# Altium schematic symbol library Regulator_Controller.SchLib: 153 symbols (part 1 of 2)
Pins are listed as number, name and electrical type; pins without a type are passive.

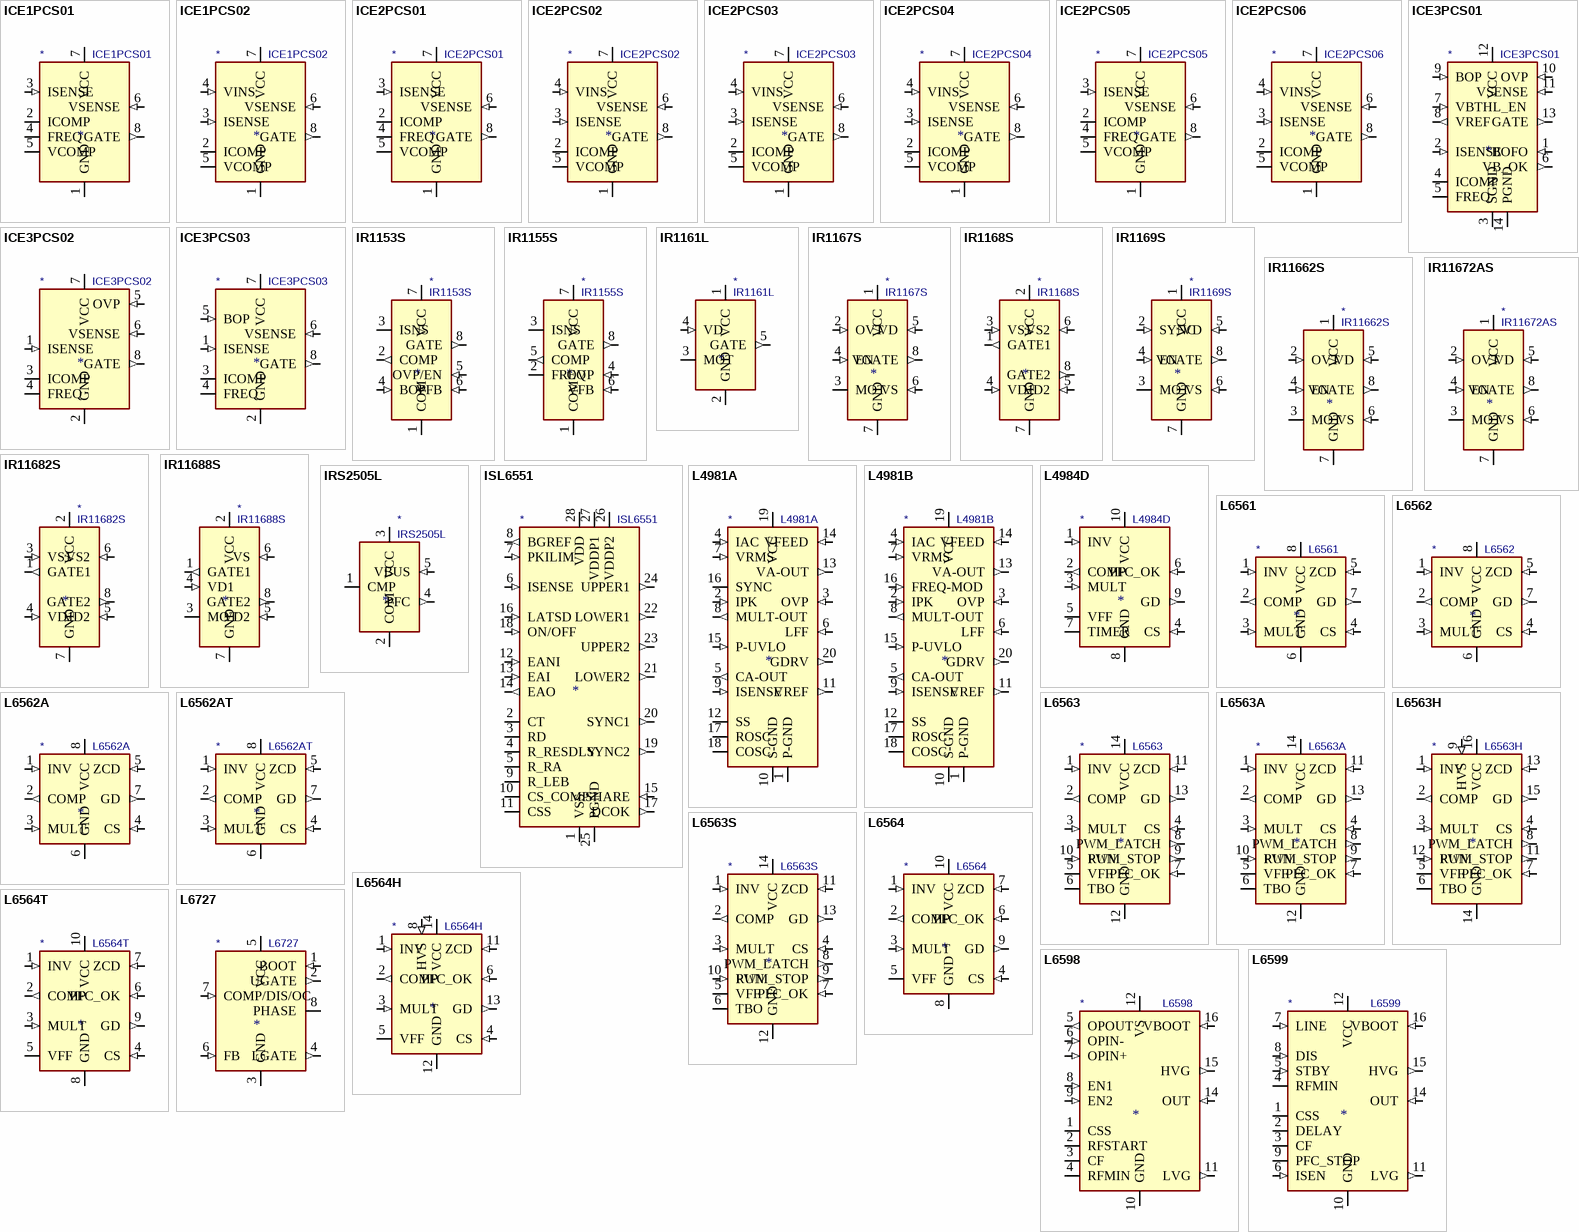
[diagram p0: symbols ICE1PCS01 to L6727]

## ICE1PCS01
designator *  value ICE1PCS01
ki_keywords: SMPS pfc controller; ki_description: Standalone PFC Controller in CCM, DIP-8/SOIC-8; ki_fp_filters: SOIC*3.9x4.9mm*P1.27mm* DIP*W7.62mm*; Supplier: https://www.infineon.com/dgdl/Infineon-ICE1PCS01-DS-v01_03-en.pdf?fileId=db3a304412b407950112b427c6f13cc7
pins: 1 GND (power), 2 ICOMP, 3 ISENSE (in), 4 FREQ, 5 VCOMP, 6 VSENSE (in), 7 VCC (power), 8 GATE (out)

## ICE1PCS02
designator *  value ICE1PCS02
ki_keywords: SMPS pfc controller; ki_description: Standalone PFC Controller in CCM With Input Brown-Out Protection, 65kHz, DIP-8/SOIC-8; ki_fp_filters: SOIC*3.9x4.9mm*P1.27mm* DIP*W7.62mm*; Supplier: https://www.infineon.com/dgdl/Infineon-ICE1PCS02-DS-v01_02-en.pdf?fileId=db3a304412b407950112b427c9283ccb
pins: 1 GND (power), 2 ICOMP, 3 ISENSE (in), 4 VINS (in), 5 VCOMP, 6 VSENSE (in), 7 VCC (power), 8 GATE (out)

## ICE2PCS01
designator *  value ICE2PCS01
ki_keywords: SMPS pfc controller; ki_description: Standalone PFC Controller in CCM, DIP-8/SOIC-8; ki_fp_filters: SOIC*3.9x4.9mm*P1.27mm* DIP*W7.62mm*; Supplier: https://www.infineon.com/dgdl/Infineon-ICE2PCS01-DS-v02_03-en.pdf?fileId=db3a304412b407950112b427caa43ccf
pins: 1 GND (power), 2 ICOMP, 3 ISENSE (in), 4 FREQ, 5 VCOMP, 6 VSENSE (in), 7 VCC (power), 8 GATE (out)

## ICE2PCS02
designator *  value ICE2PCS02
ki_keywords: SMPS pfc controller; ki_description: Standalone PFC Controller in CCM With Input Brown-Out Protection, 65kHz, DIP-8/SOIC-8; ki_fp_filters: SOIC*3.9x4.9mm*P1.27mm* DIP*W7.62mm*; Supplier: https://www.infineon.com/dgdl/Infineon-ICE2PCS02-DS-v02_04-en.pdf?fileId=db3a304412b407950112b427cc3c3cdc
pins: 1 GND (power), 2 ICOMP, 3 ISENSE (in), 4 VINS (in), 5 VCOMP, 6 VSENSE (in), 7 VCC (power), 8 GATE (out)

## ICE2PCS03
designator *  value ICE2PCS03
ki_keywords: SMPS pfc controller; ki_description: Standalone PFC Controller in CCM With Input Brown-Out Protection, 100kHz, DIP-8/SOIC-8; ki_fp_filters: SOIC*3.9x4.9mm*P1.27mm* DIP*W7.62mm*; Supplier: https://www.infineon.com/dgdl/Infineon-ICE2PCS03-DS-v02_01-en.pdf?fileId=db3a30431936bc4b01193b45457e52a1
pins: 1 GND (power), 2 ICOMP, 3 ISENSE (in), 4 VINS (in), 5 VCOMP, 6 VSENSE (in), 7 VCC (power), 8 GATE (out)

## ICE2PCS04
designator *  value ICE2PCS04
ki_keywords: SMPS pfc controller; ki_description: Standalone PFC Controller in CCM With Input Brown-Out Protection, 133kHz, DIP-8/SOIC-8; ki_fp_filters: SOIC*3.9x4.9mm*P1.27mm* DIP*W7.62mm*; Supplier: https://www.infineon.com/dgdl/Infineon-ICE2PCS04-DS-v02_01-en.pdf?fileId=db3a30431936bc4b01193b4e467952a9
pins: 1 GND (power), 2 ICOMP, 3 ISENSE (in), 4 VINS (in), 5 VCOMP, 6 VSENSE (in), 7 VCC (power), 8 GATE (out)

## ICE2PCS05
designator *  value ICE2PCS05
ki_keywords: SMPS pfc controller; ki_description: Standalone PFC Controller in CCM, DIP-8/SOIC-8; ki_fp_filters: SOIC*3.9x4.9mm*P1.27mm* DIP*W7.62mm*; Supplier: https://www.infineon.com/dgdl/Infineon-ICE2PCS05-DS-v01_02-en.pdf?fileId=db3a30431c69a49d011cdfb46a834373
pins: 1 GND (power), 2 ICOMP, 3 ISENSE (in), 4 FREQ, 5 VCOMP, 6 VSENSE (in), 7 VCC (power), 8 GATE (out)

## ICE2PCS06
designator *  value ICE2PCS06
ki_keywords: SMPS pfc controller; ki_description: Standalone PFC Controller in CCM With Input Brown-Out Protection, 65kHz, DIP-8/SOIC-8; ki_fp_filters: SOIC*3.9x4.9mm*P1.27mm* DIP*W7.62mm*; Supplier: https://www.infineon.com/dgdl/Infineon-ICE2PCS06-DS-v01_01-en.pdf?fileId=db3a3043327f13e3013285ff4ecb2e77
pins: 1 GND (power), 2 ICOMP, 3 ISENSE (in), 4 VINS (in), 5 VCOMP, 6 VSENSE (in), 7 VCC (power), 8 GATE (out)

## ICE3PCS01
designator *  value ICE3PCS01
ki_keywords: SMPS pfc controller; ki_description: Standalone PFC Controller in CCM, SOIC-14; ki_fp_filters: SOIC*3.9x8.7mm*P1.27mm*; Footprint: Package_SO:SOIC-14_3.9x8.7mm_P1.27mm; Supplier: https://www.infineon.com/dgdl/Infineon-ICE3PCS01-DS-v03_00-EN.pdf?fileId=db3a304329a0f6ee0129a67ae8c02b46
footprint SOIC-14_3.9x8.7mm_P1.27mm
pins: 1 BOFO (in), 2 ISENSE (in), 3 SGND (power), 4 ICOMP, 5 FREQ, 6 VB_OK (out), 7 VBTHL_EN (in), 8 VREF (out), 9 BOP (in), 10 OVP (in), 11 VSENSE (in), 12 VCC (power), 13 GATE (out), 14 PGND (power)

## ICE3PCS02
designator *  value ICE3PCS02
ki_keywords: SMPS pfc controller; ki_description: Standalone PFC Controller in CCM, SOIC-8; ki_fp_filters: SOIC*3.9x4.9mm*P1.27mm*; Footprint: Package_SO:SOIC-8_3.9x4.9mm_P1.27mm; Supplier: https://www.infineon.com/dgdl/Infineon-ICE3PCS02G-DS-v03_00-EN.pdf?fileId=db3a304329a0f6ee0129a67fab472b4b
footprint SOIC-8_3.9x4.9mm_P1.27mm
pins: 1 ISENSE (in), 2 GND (power), 3 ICOMP, 4 FREQ, 5 OVP (in), 6 VSENSE (in), 7 VCC (power), 8 GATE (out)

## ICE3PCS03
designator *  value ICE3PCS03
ki_keywords: SMPS pfc controller; ki_description: Standalone PFC Controller in CCM, SOIC-8; ki_fp_filters: SOIC*3.9x4.9mm*P1.27mm*; Footprint: Package_SO:SOIC-8_3.9x4.9mm_P1.27mm; Supplier: https://www.infineon.com/dgdl/Infineon-ICE3PCS03G-DS-v03_00-EN.pdf?fileId=db3a304329a0f6ee0129a683c9c92b50
footprint SOIC-8_3.9x4.9mm_P1.27mm
pins: 1 ISENSE (in), 2 GND (power), 3 ICOMP, 4 FREQ, 5 BOP (in), 6 VSENSE (in), 7 VCC (power), 8 GATE (out)

## IR1153S
designator *  value IR1153S
ki_keywords: pfc controller ccm; ki_description: Fixed 22.2kHz Frequency, uPFC One Cycle Control IC With Brown-Out Protection, Continuous Conduction Mode, SOIC-8; ki_fp_filters: SOIC*3.9x4.9mm*P1.27mm*; Footprint: Package_SO:SOIC-8_3.9x4.9mm_P1.27mm; Supplier: https://www.infineon.com/dgdl/ir1153.pdf?fileId=5546d462533600a4015355c42a5b1649
footprint SOIC-8_3.9x4.9mm_P1.27mm
pins: 1 COM (power), 2 COMP (out), 3 ISNS, 4 BOP (in), 5 OVP/EN (in), 6 VFB (in), 7 VCC (power), 8 GATE (out)

## IR1155S
designator *  value IR1155S
ki_keywords: pfc controller ccm; ki_description: Programmable Frequency, One Cycle Control PFC IC, Continuous Conduction Mode, SOIC-8; ki_fp_filters: SOIC*3.9x4.9mm*P1.27mm*; Footprint: Package_SO:SOIC-8_3.9x4.9mm_P1.27mm; Supplier: https://www.infineon.com/dgdl/ir1155spbf.pdf?fileId=5546d462533600a4015355c431f9164b
footprint SOIC-8_3.9x4.9mm_P1.27mm
pins: 1 COM (power), 2 FREQ, 3 ISNS, 4 OVP (in), 5 COMP (out), 6 VFB (in), 7 VCC (power), 8 GATE (out)

## IR1161L
designator *  value IR1161L
ki_keywords: synchronous rectifier controller; ki_description: SmartRectifier Control IC, 500kHz, 200V, 1.0/2.5A, SOT-23-5; ki_fp_filters: SOT?23*; Footprint: Package_TO_SOT_SMD:SOT-23-5; Supplier: https://www.infineon.com/dgdl/ir1161lpbf.pdf?fileId=5546d462533600a4015355c439a5164d
footprint SOT-23-5
pins: 1 VCC (power), 2 GND (power), 3 MOT, 4 VD (in), 5 GATE (out)

## IR1167S
designator *  value IR1167S
ki_keywords: synchronous rectifier controller; ki_description: SmartRectifier Control IC, 500kHz, 200V, 2.0/7.0A, SOIC-8; ki_fp_filters: SOIC*3.9x4.9mm*P1.27mm*; Footprint: Package_SO:SOIC-8_3.9x4.9mm_P1.27mm; Supplier: https://www.infineon.com/dgdl/ir1167aspbf.pdf?fileId=5546d462533600a4015355c45d9c1655
footprint SOIC-8_3.9x4.9mm_P1.27mm
pins: 1 VCC (power), 2 OVT (in), 3 MOT, 4 EN (in), 5 VD (in), 6 VS (in), 7 GND (power), 8 VGATE (out)

## IR1168S
designator *  value IR1168S
ki_keywords: dual synchronous rectifier controller; ki_description: Dual Smart Rectifier Driver IC, 500kHz, 200V, 1.0/4.0A, SOIC-8; ki_fp_filters: SOIC*3.9x4.9mm*P1.27mm*; Footprint: Package_SO:SOIC-8_3.9x4.9mm_P1.27mm; Supplier: https://www.infineon.com/dgdl/ir1168.pdf?fileId=5546d462533600a4015355c467fa1658
footprint SOIC-8_3.9x4.9mm_P1.27mm
pins: 1 GATE1 (out), 2 VCC (power), 3 VS1 (in), 4 VD1 (in), 5 VD2 (in), 6 VS2 (in), 7 GND (power), 8 GATE2 (out)

## IR1169S
designator *  value IR1169S
ki_keywords: synchronous rectifier controller; ki_description: Advanced SmartRectifier Control IC, 500kHz, 200V, 1.0/4.0A, SOIC-8; ki_fp_filters: SOIC*3.9x4.9mm*P1.27mm*; Footprint: Package_SO:SOIC-8_3.9x4.9mm_P1.27mm; Supplier: https://www.infineon.com/dgdl/ir1169.pdf?fileId=5546d462533600a4015355c485c4165e
footprint SOIC-8_3.9x4.9mm_P1.27mm
pins: 1 VCC (power), 2 SYNC (in), 3 MOT, 4 EN (in), 5 VD (in), 6 VS (in), 7 GND (power), 8 VGATE (out)

## IR11662S
designator *  value IR11662S
ki_keywords: synchronous rectifier controller; ki_description: Advanced SmartRectifier Control IC, 500kHz, 200V, 1.0/4.0A, SOIC-8; ki_fp_filters: SOIC*3.9x4.9mm*P1.27mm*; Footprint: Package_SO:SOIC-8_3.9x4.9mm_P1.27mm; Supplier: https://www.infineon.com/dgdl/ir11662spbf.pdf?fileId=5546d462533600a4015355c44195164f
footprint SOIC-8_3.9x4.9mm_P1.27mm
pins: 1 VCC (power), 2 OVT (in), 3 MOT, 4 EN (in), 5 VD (in), 6 VS (in), 7 GND (power), 8 VGATE (out)

## IR11672AS
designator *  value IR11672AS
ki_keywords: synchronous rectifier controller; ki_description: Advanced SmartRectifier Control IC, 500kHz, 200V, 2.0/7.0A, SOIC-8; ki_fp_filters: SOIC*3.9x4.9mm*P1.27mm*; Footprint: Package_SO:SOIC-8_3.9x4.9mm_P1.27mm; Supplier: https://www.infineon.com/dgdl/ir11672aspbf.pdf?fileId=5546d462533600a4015355c455561653
footprint SOIC-8_3.9x4.9mm_P1.27mm
pins: 1 VCC (power), 2 OVT (in), 3 MOT, 4 EN (in), 5 VD (in), 6 VS (in), 7 GND (power), 8 VGATE (out)

## IR11682S
designator *  value IR11682S
ki_keywords: dual synchronous rectifier controller; ki_description: Dual SmartRectifier Driver IC, 400kHz, 200V, 1.0/4.0A, SOIC-8; ki_fp_filters: SOIC*3.9x4.9mm*P1.27mm*; Footprint: Package_SO:SOIC-8_3.9x4.9mm_P1.27mm; Supplier: https://www.infineon.com/dgdl/ir11682spbf.pdf?fileId=5546d462533600a4015355c47188165a
footprint SOIC-8_3.9x4.9mm_P1.27mm
pins: 1 GATE1 (out), 2 VCC (power), 3 VS1 (in), 4 VD1 (in), 5 VD2 (in), 6 VS2 (in), 7 GND (power), 8 GATE2 (out)

## IR11688S
designator *  value IR11688S
ki_keywords: dual synchronous rectifier controller; ki_description: Dual Synchronous Rectification Control IC, 400kHz, 200V, 1.0/4.0A, SOIC-8; ki_fp_filters: SOIC*3.9x4.9mm*P1.27mm*; Footprint: Package_SO:SOIC-8_3.9x4.9mm_P1.27mm; Supplier: https://www.infineon.com/dgdl/ir11688spbf.pdf?fileId=5546d462533600a4015355c47c70165c
footprint SOIC-8_3.9x4.9mm_P1.27mm
pins: 1 GATE1 (out), 2 VCC (power), 3 MOT, 4 VD1 (in), 5 VD2 (in), 6 VS (in), 7 GND (power), 8 GATE2 (out)

## IRS2505L
designator *  value IRS2505L
ki_keywords: pfc controller crcm dcm; ki_description: Boost PFC and SMPS Control IC, Critical Conduction Mode, SOT-23-5; ki_fp_filters: SOT?23*; Footprint: Package_TO_SOT_SMD:SOT-23-5; Supplier: https://www.infineon.com/dgdl/irs2505lpbf.pdf?fileId=5546d462533600a40153567ad42c2819
footprint SOT-23-5
pins: 1 CMP, 2 COM (power), 3 VCC (power), 4 PFC (out), 5 VBUS (in)

## ISL6551
designator *  value ISL6551
ki_keywords: SMPS controller; ki_description: ZVS Full Bridge PWM Controller, SOIC-28; ki_fp_filters: SOIC*7.5x17.9mm*P1.27mm*; Footprint: Package_SO:SOIC-28W_7.5x17.9mm_P1.27mm; Supplier: https://www.intersil.com/content/dam/Intersil/documents/isl6/isl6551.pdf
footprint SOIC-28W_7.5x17.9mm_P1.27mm
pins: 1 VSS (power), 2 CT, 3 RD, 4 R_RESDLY, 5 R_RA, 6 ISENSE (in), 7 PKILIM (in), 8 BGREF (out), 9 R_LEB, 10 CS_COMP, 11 CSS, 12 EANI (in), 13 EAI (in), 14 EAO (out), 15 SHARE (in), 16 LATSD (in), 17 DCOK (out), 18 ON/OFF (in), 19 SYNC2 (out), 20 SYNC1 (out), 21 LOWER2 (out), 22 LOWER1 (out), 23 UPPER2 (out), 24 UPPER1 (out), 25 PGND (power), 26 VDDP2 (power), 27 VDDP1 (power), 28 VDD (power)

## L4981A
designator *  value L4981A
ki_keywords: SMPS pfc controller; ki_description: Power Factor Corrector, Fixed Frequency Average Current Mode, DIP-20/SOIC-20; ki_fp_filters: SOIC*7.5x12.8mm*P1.27mm* DIP*W7.62mm*; Supplier: http://www.st.com/resource/en/datasheet/l4981.pdf
pins: 1 P-GND (power), 2 IPK (in), 3 OVP (in), 4 IAC (in), 5 CA-OUT (out), 6 LFF (in), 7 VRMS (in), 8 MULT-OUT (out), 9 ISENSE (in), 10 S-GND (power), 11 VREF (out), 12 SS, 13 VA-OUT (out), 14 VFEED (in), 15 P-UVLO (in), 16 SYNC (io), 17 ROSC, 18 COSC, 19 VCC (power), 20 GDRV (out)

## L4981B
designator *  value L4981B
ki_keywords: SMPS pfc controller; ki_description: Power Factor Corrector, Line Modulated Frequency Average Current Mode, DIP-20/SOIC-20; ki_fp_filters: SOIC*7.5x12.8mm*P1.27mm* DIP*W7.62mm*; Supplier: http://www.st.com/resource/en/datasheet/l4981.pdf
pins: 1 P-GND (power), 2 IPK (in), 3 OVP (in), 4 IAC (in), 5 CA-OUT (out), 6 LFF (in), 7 VRMS (in), 8 MULT-OUT (out), 9 ISENSE (in), 10 S-GND (power), 11 VREF (out), 12 SS, 13 VA-OUT (out), 14 VFEED (in), 15 P-UVLO (in), 16 FREQ-MOD (in), 17 ROSC, 18 COSC, 19 VCC (power), 20 GDRV (out)

## L4984D
designator *  value L4984D
ki_keywords: SMPS pfc controller; ki_description: CCM PFC Controller, SSOP-10; ki_fp_filters: SSOP*3.9x4.9mm*P1.00mm*; Footprint: Package_SO:SSOP-10_3.9x4.9mm_P1.00mm; Supplier: http://www.st.com/resource/en/datasheet/l4984d.pdf
footprint SSOP-10_3.9x4.9mm_P1.00mm
pins: 1 INV (in), 2 COMP (out), 3 MULT (in), 4 CS (in), 5 VFF, 6 PFC_OK (in), 7 TIMER, 8 GND (power), 9 GD (out), 10 VCC (power)

## L6561
designator *  value L6561
ki_keywords: SMPS pfc controller; ki_description: Transition Mode Power Factor Corrector, DIP-8/SOIC-8; ki_fp_filters: SOIC*3.9x4.9mm*P1.27mm* DIP*W7.62mm*; Supplier: http://www.st.com/resource/en/datasheet/l6561.pdf
pins: 1 INV (in), 2 COMP (out), 3 MULT (in), 4 CS (in), 5 ZCD (in), 6 GND (power), 7 GD (out), 8 VCC (power)

## L6562
designator *  value L6562
ki_keywords: SMPS pfc controller; ki_description: Transition-Mode PFC Controller, DIP-8/SOIC-8; ki_fp_filters: SOIC*3.9x4.9mm*P1.27mm* DIP*W7.62mm*; Supplier: http://www.st.com/resource/en/datasheet/l6562.pdf
pins: 1 INV (in), 2 COMP (out), 3 MULT (in), 4 CS (in), 5 ZCD (in), 6 GND (power), 7 GD (out), 8 VCC (power)

## L6562A
designator *  value L6562A
ki_keywords: SMPS pfc controller; ki_description: Transition-Mode PFC Controller, DIP-8/SOIC-8; ki_fp_filters: SOIC*3.9x4.9mm*P1.27mm* DIP*W7.62mm*; Supplier: http://www.st.com/resource/en/datasheet/l6562a.pdf
pins: 1 INV (in), 2 COMP (out), 3 MULT (in), 4 CS (in), 5 ZCD (in), 6 GND (power), 7 GD (out), 8 VCC (power)

## L6562AT
designator *  value L6562AT
ki_keywords: SMPS pfc controller; ki_description: Transition-Mode PFC Controller, DIP-8/SOIC-8; ki_fp_filters: SOIC*3.9x4.9mm*P1.27mm* DIP*W7.62mm*; Supplier: http://www.st.com/resource/en/datasheet/l6562at.pdf
pins: 1 INV (in), 2 COMP (out), 3 MULT (in), 4 CS (in), 5 ZCD (in), 6 GND (power), 7 GD (out), 8 VCC (power)

## L6563
designator *  value L6563
ki_keywords: SMPS pfc controller; ki_description: Advanced Transition-Mode PFC Controller, SOIC-14; ki_fp_filters: SOIC*3.9x8.7mm*P1.27mm*; Footprint: Package_SO:SOIC-14_3.9x8.7mm_P1.27mm; Supplier: http://www.st.com/resource/en/datasheet/l6563.pdf
footprint SOIC-14_3.9x8.7mm_P1.27mm
pins: 1 INV (in), 2 COMP (out), 3 MULT (in), 4 CS (in), 5 VFF, 6 TBO, 7 PFC_OK (in), 8 PWM_LATCH (out), 9 PWM_STOP (out), 10 RUN (in), 11 ZCD (in), 12 GND (power), 13 GD (out), 14 VCC (power)

## L6563A
designator *  value L6563A
ki_keywords: SMPS pfc controller; ki_description: Advanced Transition-Mode PFC Controller, SOIC-14; ki_fp_filters: SOIC*3.9x8.7mm*P1.27mm*; Footprint: Package_SO:SOIC-14_3.9x8.7mm_P1.27mm; Supplier: http://www.st.com/resource/en/datasheet/l6563.pdf
footprint SOIC-14_3.9x8.7mm_P1.27mm
pins: 1 INV (in), 2 COMP (out), 3 MULT (in), 4 CS (in), 5 VFF, 6 TBO, 7 PFC_OK (in), 8 PWM_LATCH (out), 9 PWM_STOP (out), 10 RUN (in), 11 ZCD (in), 12 GND (power), 13 GD (out), 14 VCC (power)

## L6563H
designator *  value L6563H
ki_keywords: SMPS pfc controller; ki_description: High Voltage Start-Up Transition-Mode PFC, SOIC-16; ki_fp_filters: SOIC*3.9x9.9mm*P1.27mm*; Footprint: Package_SO:SOIC-16_3.9x9.9mm_P1.27mm; Supplier: http://www.st.com/resource/en/datasheet/l6563h.pdf
footprint SOIC-16_3.9x9.9mm_P1.27mm
pins: 1 INV (in), 2 COMP (out), 3 MULT (in), 4 CS (in), 5 VFF, 6 TBO, 7 PFC_OK (in), 8 PWM_LATCH (out), 9 HVS (in), 10 NC (in) hidden, 11 PWM_STOP (out), 12 RUN (in), 13 ZCD (in), 14 GND (power), 15 GD (out), 16 VCC (power)

## L6563S
designator *  value L6563S
ki_keywords: SMPS pfc controller; ki_description: Enhanced Transition-Mode PFC Controller, SOIC-14; ki_fp_filters: SOIC*3.9x8.7mm*P1.27mm*; Footprint: Package_SO:SOIC-14_3.9x8.7mm_P1.27mm; Supplier: http://www.st.com/resource/en/datasheet/l6563s.pdf
footprint SOIC-14_3.9x8.7mm_P1.27mm
pins: 1 INV (in), 2 COMP (out), 3 MULT (in), 4 CS (in), 5 VFF, 6 TBO, 7 PFC_OK (in), 8 PWM_LATCH (out), 9 PWM_STOP (out), 10 RUN (in), 11 ZCD (in), 12 GND (power), 13 GD (out), 14 VCC (power)

## L6564
designator *  value L6564
ki_keywords: SMPS pfc controller; ki_description: 10-Pin Transition-Mode PFC Controller, SSOP-10; ki_fp_filters: SSOP*3.9x4.9mm*P1.00mm*; Footprint: Package_SO:SSOP-10_3.9x4.9mm_P1.00mm; Supplier: http://www.st.com/resource/en/datasheet/l6564.pdf
footprint SSOP-10_3.9x4.9mm_P1.00mm
pins: 1 INV (in), 2 COMP (out), 3 MULT (in), 4 CS (in), 5 VFF, 6 PFC_OK (in), 7 ZCD (in), 8 GND (power), 9 GD (out), 10 VCC (power)

## L6564H
designator *  value L6564H
ki_keywords: SMPS pfc controller; ki_description: High Voltage Start-Up Transition-Mode PFC, SOIC-14; ki_fp_filters: SOIC*3.9x8.7mm*P1.27mm*; Footprint: Package_SO:SOIC-14_3.9x8.7mm_P1.27mm; Supplier: http://www.st.com/resource/en/datasheet/l6564h.pdf
footprint SOIC-14_3.9x8.7mm_P1.27mm
pins: 1 INV (in), 2 COMP (out), 3 MULT (in), 4 CS (in), 5 VFF, 6 PFC_OK (in), 7 NC (in) hidden, 8 HVS (in), 9 NC (in) hidden, 10 NC (in) hidden, 11 ZCD (in), 12 GND (power), 13 GD (out), 14 VCC (power)

## L6564T
designator *  value L6564T
ki_keywords: SMPS pfc controller; ki_description: 10-Pin Transition-Mode PFC Controller for Outdoor Applications, SSOP-10; ki_fp_filters: SSOP*3.9x4.9mm*P1.00mm*; Footprint: Package_SO:SSOP-10_3.9x4.9mm_P1.00mm; Supplier: http://www.st.com/resource/en/datasheet/l6564t.pdf
footprint SSOP-10_3.9x4.9mm_P1.00mm
pins: 1 INV (in), 2 COMP (out), 3 MULT (in), 4 CS (in), 5 VFF, 6 PFC_OK (in), 7 ZCD (in), 8 GND (power), 9 GD (out), 10 VCC (power)

## L6598
designator *  value L6598
ki_keywords: SMPS controller; ki_description: High Voltage Resonant Controller, DIP-16/SOIC-16; ki_fp_filters: SOIC*3.9x9.9mm*P1.27mm* DIP*W7.62mm*; Supplier: www.st.com/resource/en/datasheet/l6598.pdf
pins: 1 CSS, 2 RFSTART, 3 CF, 4 RFMIN, 5 OPOUT (out), 6 OPIN- (in), 7 OPIN+ (in), 8 EN1 (in), 9 EN2 (in), 10 GND (power), 11 LVG (out), 12 VS (power), 13 NC (in) hidden, 14 OUT (in), 15 HVG (out), 16 VBOOT (in)

## L6599
designator *  value L6599
ki_keywords: SMPS controller; ki_description: High Voltage Resonant Controller, DIP-16/SOIC-16; ki_fp_filters: SOIC*3.9x9.9mm*P1.27mm* DIP*W7.62mm*; Supplier: www.st.com/resource/en/datasheet/l6599.pdf
pins: 1 CSS, 2 DELAY, 3 CF, 4 RFMIN, 5 STBY (in), 6 ISEN (in), 7 LINE (in), 8 DIS (in), 9 PFC_STOP (oc), 10 GND (power), 11 LVG (out), 12 VCC (power), 13 NC (in) hidden, 14 OUT (in), 15 HVG (out), 16 VBOOT (in)

## L6727
designator *  value L6727
ki_keywords: SMPS controller; ki_description: Single Phase PWM Controller, SOIC-8; ki_fp_filters: SOIC*3.9x4.9mm*P1.27mm*; Footprint: Package_SO:SOIC-8_3.9x4.9mm_P1.27mm; Supplier: http://www.st.com/resource/en/datasheet/l6727.pdf
footprint SOIC-8_3.9x4.9mm_P1.27mm
pins: 1 BOOT (in), 2 UGATE (out), 3 GND (power), 4 LGATE (out), 5 VCC (power), 6 FB (in), 7 COMP/DIS/OC (in), 8 PHASE

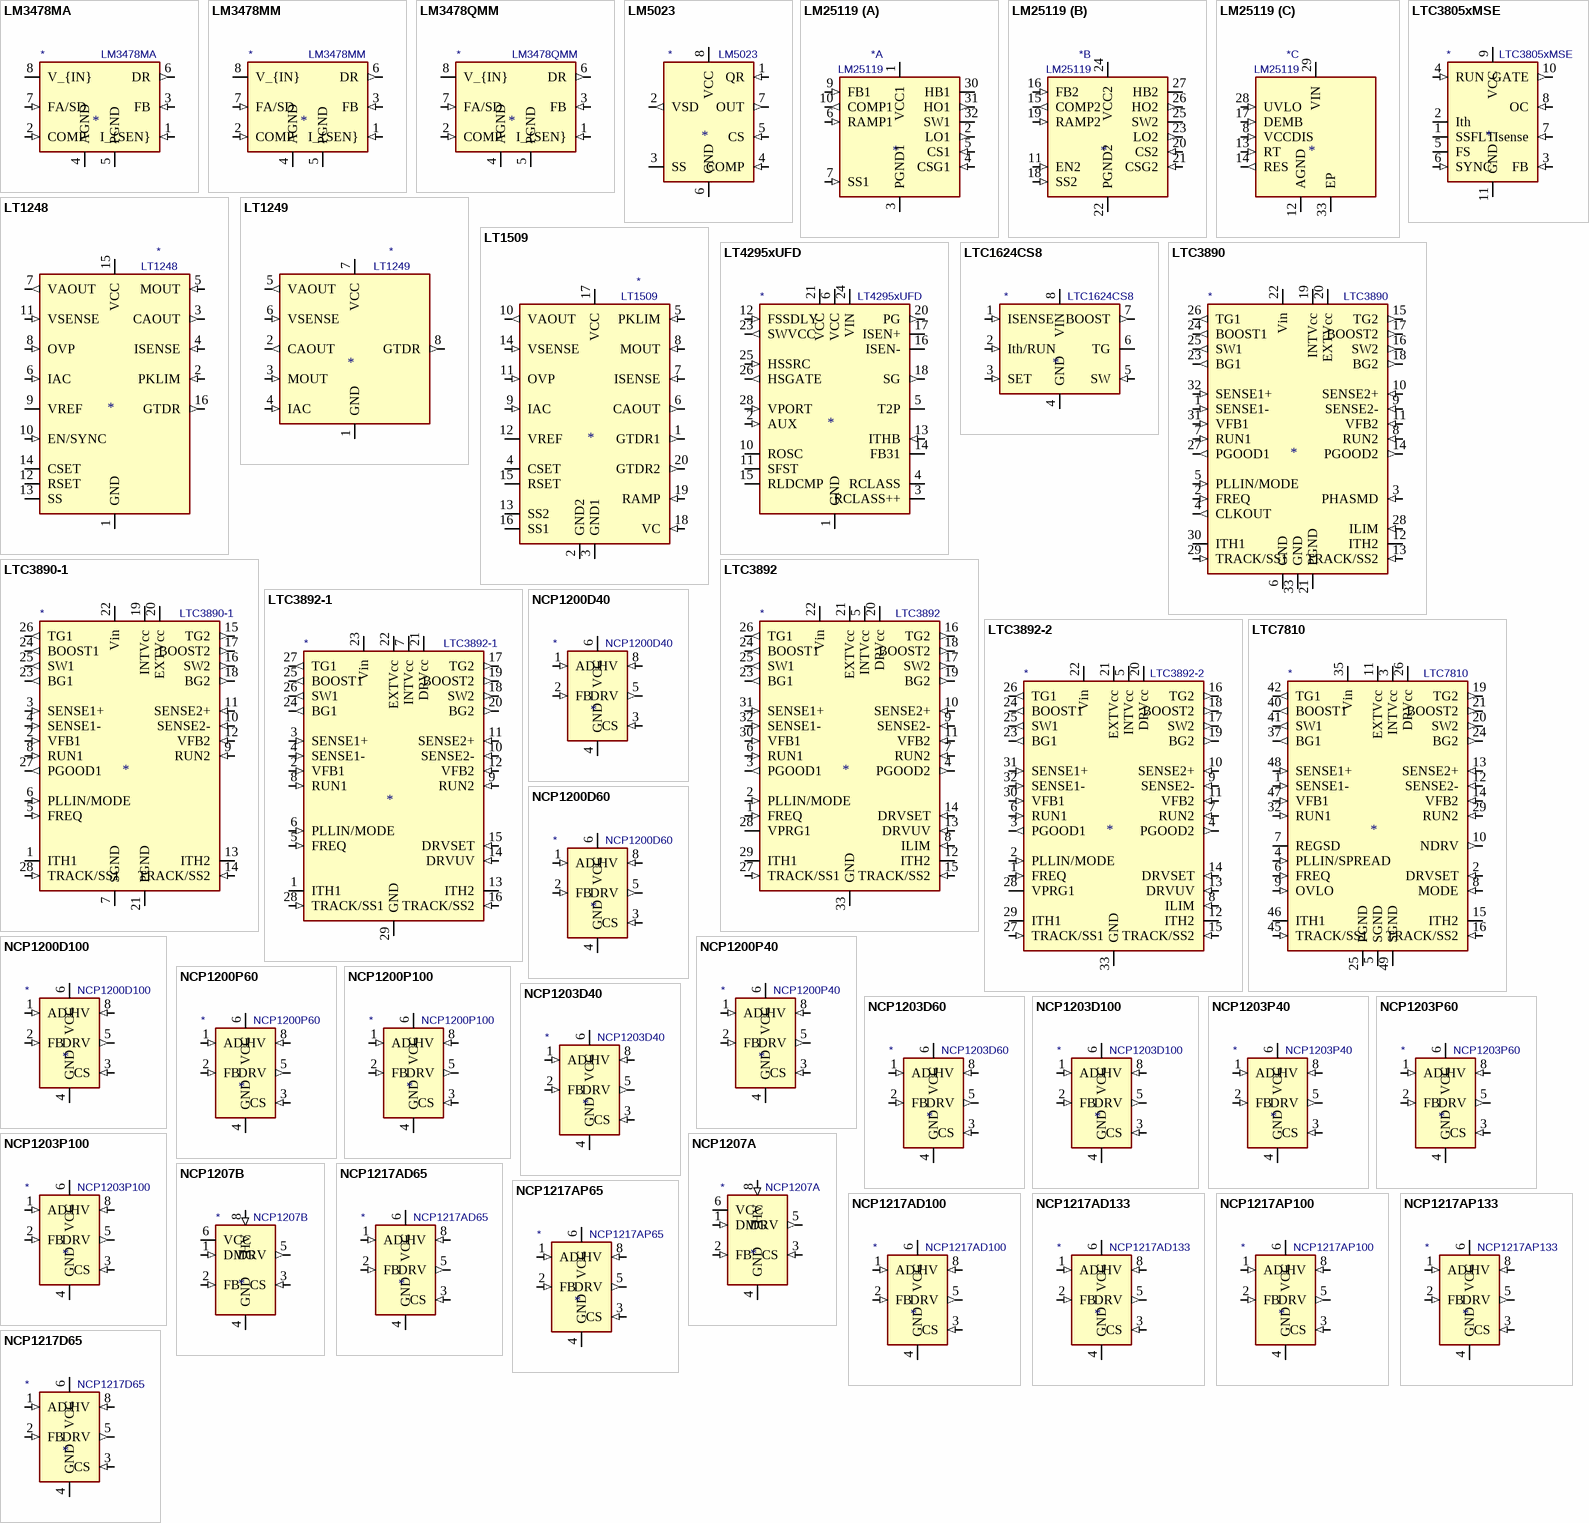
[diagram p1: symbols LM3478MA to NCP1217D65]

## LM3478MA
designator *  value LM3478MA
ki_keywords: Boost flyback SEPIC DC-DC controller; ki_description: 2.97~40V Wide Input Range Boost/SEPIC/Flyback DC-DC Controller, SOIC-8; ki_fp_filters: SOIC-8*3.9x4.9mm_P1.27mm*; Footprint: Package_SO:SOIC-8_3.9x4.9mm_P1.27mm; Supplier: https://www.ti.com/lit/gpn/lm3478
footprint SOIC-8_3.9x4.9mm_P1.27mm
pins: 1 I_{SEN} (in), 2 COMP (in), 3 FB (in), 4 AGND (power), 5 PGND (power), 6 DR (out), 7 FA/SD (in), 8 V_{IN} (power)

## LM3478MM
designator *  value LM3478MM
ki_keywords: Boost flyback SEPIC DC-DC controller; ki_description: 2.97~40V Wide Input Range Boost/SEPIC/Flyback DC-DC Controller, VSSOP-8; ki_fp_filters: VSSOP-8_3.0x3.0mm_P0.65mm*; Footprint: Package_SO:VSSOP-8_3.0x3.0mm_P0.65mm; Supplier: https://www.ti.com/lit/gpn/lm3478
footprint VSSOP-8_3.0x3.0mm_P0.65mm
pins: 1 I_{SEN} (in), 2 COMP (in), 3 FB (in), 4 AGND (power), 5 PGND (power), 6 DR (out), 7 FA/SD (in), 8 V_{IN} (power)

## LM3478QMM
designator *  value LM3478QMM
ki_keywords: Boost flyback SEPIC DC-DC controller Automotive; ki_description: 2.97~40V Wide Input Range Boost/SEPIC/Flyback DC-DC Controller, AEC-Q100 Qualified, VSSOP-8; ki_fp_filters: VSSOP-8_3.0x3.0mm_P0.65mm*; Footprint: Package_SO:VSSOP-8_3.0x3.0mm_P0.65mm; Supplier: https://www.ti.com/lit/gpn/lm3478q-q1
footprint VSSOP-8_3.0x3.0mm_P0.65mm
pins: 1 I_{SEN} (in), 2 COMP (in), 3 FB (in), 4 AGND (power), 5 PGND (power), 6 DR (out), 7 FA/SD (in), 8 V_{IN} (power)

## LM5023
designator *  value LM5023
ki_keywords: smps pwm controller ac-dc ac dc offline off-line quasi resonant quasi-resonant flyback; ki_description: Quasi-Resonant Current-Mode PWM Controller for Off-Line Supplies, OVP/OTP, Latched OVP, VSSOP-8; ki_fp_filters: VSSOP*3.0x3.0mm*P0.65mm*; Footprint: Package_SO:VSSOP-8_3.0x3.0mm_P0.65mm; Supplier: https://www.ti.com/lit/ds/symlink/lm5023.pdf
footprint VSSOP-8_3.0x3.0mm_P0.65mm
pins: 1 QR (in), 2 VSD (out), 3 SS, 4 COMP (in), 5 CS (in), 6 GND (power), 7 OUT (out), 8 VCC (power)

## LM25119
designator *  value LM25119
ki_keywords: Dual Synchronous Buck; ki_description: Wide Input Range, Dual Synchronous Buck Controller, WQFN-32; ki_fp_filters: WQFN*5x5mm*P0.5mm*; Footprint: Package_DFN_QFN:WQFN-32-1EP_5x5mm_P0.5mm_EP3.1x3.1mm; Supplier: http://www.ti.com/lit/ds/symlink/lm25119.pdf
footprint WQFN-32-1EP_5x5mm_P0.5mm_EP3.1x3.1mm
part A pins: 1 VCC1 (power), 2 LO1 (out), 3 PGND1 (power), 4 CSG1 (in), 5 CS1 (in), 6 RAMP1 (in), 7 SS1 (in), 9 FB1 (in), 10 COMP1 (out), 30 HB1 (power), 31 HO1 (out), 32 SW1 (io)
part B pins: 11 EN2 (in), 15 COMP2 (out), 16 FB2 (in), 18 SS2 (in), 19 RAMP2 (in), 20 CS2 (in), 21 CSG2 (in), 22 PGND2 (power), 23 LO2 (out), 24 VCC2 (power), 25 SW2 (io), 26 HO2 (out), 27 HB2 (power)
part C pins: 8 VCCDIS (in), 12 AGND (power), 13 RT (in), 14 RES (out), 17 DEMB (in), 28 UVLO (in), 29 VIN (power), 33 EP

## LT1248
designator *  value LT1248
ki_keywords: pfc controller; ki_description: Power Factor Controller, DIP-16/SOIC-16; ki_fp_filters: SOIC*16*3.9x9.9mm*P1.27mm* DIP*16*W7.62mm*; Supplier: https://www.analog.com/media/en/technical-documentation/data-sheets/1248fd.pdf
pins: 1 GND (power), 2 PKLIM (in), 3 CAOUT (out), 4 ISENSE (in), 5 MOUT (in), 6 IAC (in), 7 VAOUT (out), 8 OVP (in), 9 VREF (power), 10 EN/SYNC (in), 11 VSENSE (in), 12 RSET, 13 SS, 14 CSET, 15 VCC (power), 16 GTDR (out)

## LT1249
designator *  value LT1249
ki_keywords: pfc controller; ki_description: Power Factor Controller, DIP-8/SOIC-8; ki_fp_filters: SOIC*3.9x4.9mm*P1.27mm* DIP*W7.62mm*; Supplier: https://www.analog.com/media/en/technical-documentation/data-sheets/1249fbs.pdf
pins: 1 GND (power), 2 CAOUT (out), 3 MOUT (in), 4 IAC (in), 5 VAOUT (out), 6 VSENSE (in), 7 VCC (power), 8 GTDR (out)

## LT1509
designator *  value LT1509
ki_keywords: pfc pwm controller; ki_description: Power Factor and PWM Controller, DIP-20/SOIC-20; ki_fp_filters: SOIC*7.5x12.8mm*P1.27mm* DIP*W7.62mm*; Supplier: https://www.analog.com/media/en/technical-documentation/data-sheets/lt1509.pdf
pins: 1 GTDR1 (out), 2 GND2 (power), 3 GND1 (power), 4 CSET, 5 PKLIM (in), 6 CAOUT (out), 7 ISENSE (in), 8 MOUT (in), 9 IAC (in), 10 VAOUT (out), 11 OVP (in), 12 VREF (power), 13 SS2, 14 VSENSE (in), 15 RSET, 16 SS1, 17 VCC (power), 18 VC (in), 19 RAMP (in), 20 GTDR2 (out)

## LT4295xUFD
designator *  value LT4295xUFD
ki_keywords: LTPoE++ IEEE 802.3af IEEE 802.3at IEEE 802.3bt; ki_description: IEEE 802.3bt PD Interface with Forward/Flyback Controller, QFN-28; ki_fp_filters: QFN*1EP*4x5mm*P0.5mm*; Footprint: Package_DFN_QFN:QFN-28-1EP_4x5mm_P0.5mm_EP2.65x3.65mm; Supplier: https://www.analog.com/media/en/technical-documentation/data-sheets/LT4295.pdf
footprint QFN-28-1EP_4x5mm_P0.5mm_EP2.65x3.65mm
pins: 1 GND (power), 2 AUX (in), 3 RCLASS++, 4 RCLASS, 5 T2P (oc), 6 VCC (power), 7 VCC hidden, 8 VCC hidden, 9 VCC hidden, 10 ROSC, 11 SFST, 12 FSSDLY (in), 13 ITHB (in), 14 FB31, 15 RLDCMP, 16 ISEN-, 17 ISEN+, 18 SG (out), 19 GND hidden, 20 PG (out), 21 VCC (power), 22 DNC (in) hidden, 23 SWVCC (out), 24 VIN (power), 25 HSSRC (in), 26 HSGATE (out), 27 NC (in) hidden, 28 VPORT (in), 29 GND hidden

## LTC1624CS8
designator *  value LTC1624CS8
ki_keywords: Switching Regulator Controller; ki_description: High Efficiency N-Channel Switching Regulator Controller, SOIC-8; ki_fp_filters: SOIC*3.9x4.9mm*P1.27mm*; Footprint: Package_SO:SOIC-8_3.9x4.9mm_P1.27mm; Supplier: https://www.analog.com/media/en/technical-documentation/data-sheets/1624f.pdf
footprint SOIC-8_3.9x4.9mm_P1.27mm
pins: 1 ISENSE (in), 2 Ith/RUN (in), 3 SET (in), 4 GND (power), 5 SW (in), 6 TG (oc), 7 BOOST (out), 8 VIN (power)

## LTC3805xMSE
designator *  value LTC3805xMSE
ki_keywords: flyback dc-dc switcher switching; ki_description: Adjustable Frequency current Mode Flyback DC/DC controller, MSOP-10; ki_fp_filters: MSOP*10*3x3mm*P0.5mm*; Footprint: Package_SO:MSOP-10-1EP_3x3mm_P0.5mm_EP1.68x1.88mm; Supplier: https://www.analog.com/media/en/technical-documentation/data-sheets/3805fg.pdf
footprint MSOP-10-1EP_3x3mm_P0.5mm_EP1.68x1.88mm
pins: 1 SSFLT, 2 Ith, 3 FB (in), 4 RUN (in), 5 FS, 6 SYNC (in), 7 Isense (in), 8 OC (in), 9 VCC (power), 10 GATE (out), 11 GND (power)

## LTC3890
designator *  value LTC3890
ki_keywords: switching buck converter regulator dual-output; ki_description: 60V dual 2-phase synchronous step-down DC/DC controller, QFN-32; ki_fp_filters: QFN*5x5mm*P0.5mm*; Footprint: Package_DFN_QFN:QFN-32-1EP_5x5mm_P0.5mm_EP3.45x3.45mm; Supplier: https://www.analog.com/media/en/technical-documentation/data-sheets/3890fc.pdf
footprint QFN-32-1EP_5x5mm_P0.5mm_EP3.45x3.45mm
pins: 1 SENSE1- (in), 2 FREQ (in), 3 PHASMD (in), 4 CLKOUT (out), 5 PLLIN/MODE (in), 6 GND (power), 7 RUN1 (in), 8 RUN2 (in), 9 SENSE2- (in), 10 SENSE2+ (in), 11 VFB2 (in), 12 ITH2, 13 TRACK/SS2 (in), 14 PGOOD2 (out), 15 TG2 (out), 16 SW2 (out), 17 BOOST2 (out), 18 BG2 (out), 19 INTVcc (power), 20 EXTVcc (power), 21 PGND (power), 22 Vin (power), 23 BG1 (out), 24 BOOST1 (out), 25 SW1 (out), 26 TG1 (out), 27 PGOOD1 (out), 28 ILIM (in), 29 TRACK/SS1 (in), 30 ITH1, 31 VFB1 (in), 32 SENSE1+ (in), 33 GND (power)

## LTC3890-1
designator *  value LTC3890-1
ki_keywords: switching buck converter regulator dual-output; ki_description: 60V dual 2-phase synchronous step-down DC/DC controller, SSOP-28; ki_fp_filters: SSOP*3.9x9.9mm*P0.635mm*; Footprint: Package_SO:SSOP-28_3.9x9.9mm_P0.635mm; Supplier: https://www.analog.com/media/en/technical-documentation/data-sheets/38901fb.pdf
footprint SSOP-28_3.9x9.9mm_P0.635mm
pins: 1 ITH1, 2 VFB1 (in), 3 SENSE1+ (in), 4 SENSE1- (in), 5 FREQ (in), 6 PLLIN/MODE (in), 7 SGND (power), 8 RUN1 (in), 9 RUN2 (in), 10 SENSE2- (in), 11 SENSE2+ (in), 12 VFB2 (in), 13 ITH2, 14 TRACK/SS2 (in), 15 TG2 (out), 16 SW2 (out), 17 BOOST2 (out), 18 BG2 (out), 19 INTVcc (power), 20 EXTVcc (power), 21 PGND (power), 22 Vin (power), 23 BG1 (out), 24 BOOST1 (out), 25 SW1 (out), 26 TG1 (out), 27 PGOOD1 (out), 28 TRACK/SS1 (in)

## LTC3892
designator *  value LTC3892
ki_keywords: switching buck converter regulator dual-output; ki_description: 60V dual 2-phase synchronous step-down DC/DC controller, continuous conduction, QFN-32; ki_fp_filters: QFN*5x5mm*P0.5mm*; Footprint: Package_DFN_QFN:QFN-32-1EP_5x5mm_P0.5mm_EP3.45x3.45mm; Supplier: https://www.analog.com/media/en/technical-documentation/data-sheets/38921fc.pdf
footprint QFN-32-1EP_5x5mm_P0.5mm_EP3.45x3.45mm
pins: 1 FREQ (in), 2 PLLIN/MODE (in), 3 PGOOD1 (out), 4 PGOOD2 (out), 5 INTVcc (power), 6 RUN1 (in), 7 RUN2 (in), 8 ILIM (in), 9 SENSE2- (in), 10 SENSE2+ (in), 11 VFB2 (in), 12 ITH2, 13 DRVUV (in), 14 DRVSET (in), 15 TRACK/SS2 (in), 16 TG2 (out), 17 SW2 (out), 18 BOOST2 (out), 19 BG2 (out), 20 DRVcc (power), 21 EXTVcc (power), 22 Vin (power), 23 BG1 (out), 24 BOOST1 (out), 25 SW1 (out), 26 TG1 (out), 27 TRACK/SS1 (in), 28 VPRG1, 29 ITH1, 30 VFB1 (in), 31 SENSE1+ (in), 32 SENSE1- (in), 33 GND (power)

## LTC3892-1
designator *  value LTC3892-1
ki_keywords: switching buck converter regulator dual-output; ki_description: 60V dual 2-phase synchronous step-down DC/DC controller, forced continuous conduction mode, TSSOP-28; ki_fp_filters: TSSOP*1EP*4.4x9.7mm*P0.65mm*; Footprint: Package_SO:TSSOP-28-1EP_4.4x9.7mm_P0.65mm; Supplier: https://www.analog.com/media/en/technical-documentation/data-sheets/38921fc.pdf
footprint TSSOP-28-1EP_4.4x9.7mm_P0.65mm
pins: 1 ITH1, 2 VFB1 (in), 3 SENSE1+ (in), 4 SENSE1- (in), 5 FREQ (in), 6 PLLIN/MODE (in), 7 INTVcc (power), 8 RUN1 (in), 9 RUN2 (in), 10 SENSE2- (in), 11 SENSE2+ (in), 12 VFB2 (in), 13 ITH2, 14 DRVUV (in), 15 DRVSET (in), 16 TRACK/SS2 (in), 17 TG2 (out), 18 SW2 (out), 19 BOOST2 (out), 20 BG2 (out), 21 DRVcc (power), 22 EXTVcc (power), 23 Vin (power), 24 BG1 (out), 25 BOOST1 (out), 26 SW1 (out), 27 TG1 (out), 28 TRACK/SS1 (in), 29 GND (power)

## LTC3892-2
designator *  value LTC3892-2
ki_keywords: switching buck converter regulator dual-output; ki_description: 60V dual 2-phase synchronous step-down DC/DC controller, pulse-skipping, QFN-32; ki_fp_filters: QFN*5x5mm*P0.5mm*; Footprint: Package_DFN_QFN:QFN-32-1EP_5x5mm_P0.5mm_EP3.45x3.45mm; Supplier: https://www.analog.com/media/en/technical-documentation/data-sheets/38921fc.pdf
footprint QFN-32-1EP_5x5mm_P0.5mm_EP3.45x3.45mm
pins: 1 FREQ (in), 2 PLLIN/MODE (in), 3 PGOOD1 (out), 4 PGOOD2 (out), 5 INTVcc (power), 6 RUN1 (in), 7 RUN2 (in), 8 ILIM (in), 9 SENSE2- (in), 10 SENSE2+ (in), 11 VFB2 (in), 12 ITH2, 13 DRVUV (in), 14 DRVSET (in), 15 TRACK/SS2 (in), 16 TG2 (out), 17 SW2 (out), 18 BOOST2 (out), 19 BG2 (out), 20 DRVcc (power), 21 EXTVcc (power), 22 Vin (power), 23 BG1 (out), 24 BOOST1 (out), 25 SW1 (out), 26 TG1 (out), 27 TRACK/SS1 (in), 28 VPRG1, 29 ITH1, 30 VFB1 (in), 31 SENSE1+ (in), 32 SENSE1- (in), 33 GND (power)

## LTC7810
designator *  value LTC7810
ki_keywords: switching buck converter regulator dual-output; ki_description: 150V dual 2-phase synchronous step-down DC/DC controller, LQPF-48; ki_fp_filters: LQFP?48?1EP*7x7mm*P0.5mm*EP3.6x3.6mm*; Footprint: Package_QFP:LQFP-48-1EP_7x7mm_P0.5mm_EP3.6x3.6mm; Supplier: https://www.analog.com/media/en/technical-documentation/data-sheets/LTC7810.pdf
footprint LQFP-48-1EP_7x7mm_P0.5mm_EP3.6x3.6mm
pins: 1 SENSE1- (in), 2 DRVSET (in), 3 INTVcc (power), 4 PLLIN/SPREAD (in), 5 SGND (power), 6 FREQ (in), 7 REGSD, 8 MODE (in), 9 OVLO (in), 10 NDRV (out), 11 EXTVcc (power), 12 SENSE2- (in), 13 SENSE2+ (in), 14 VFB2 (in), 15 ITH2, 16 TRACK/SS2 (in), 19 TG2 (out), 20 SW2 (out), 21 BOOST2 (out), 24 BG2 (out), 25 PGND (power), 26 DRVcc (power), 29 RUN2 (in), 32 RUN1 (in), 35 Vin (power), 37 BG1 (out), 40 BOOST1 (out), 41 SW1 (out), 42 TG1 (out), 45 TRACK/SS1 (in), 46 ITH1, 47 VFB1 (in), 48 SENSE1+ (in), 49 SGND (power)

## NCP1200D40
designator *  value NCP1200D40
ki_keywords: SMPS Controller AC-DC; ki_description: PWM Current-Mode Controller for Off-Line Supplies, AC-DC, 40kHz, SOIC-8; ki_fp_filters: SOIC*3.9x4.9mm*P1.27mm*; Footprint: Package_SO:SOIC-8_3.9x4.9mm_P1.27mm; Supplier: http://www.onsemi.com/pub_link/Collateral/NCP1200-D.PDF
footprint SOIC-8_3.9x4.9mm_P1.27mm
pins: 1 ADJ (in), 2 FB (in), 3 CS (in), 4 GND (power), 5 DRV (out), 6 VCC (power), 7 NC (in) hidden, 8 HV (in)

## NCP1200D60
designator *  value NCP1200D60
ki_keywords: SMPS Controller AC-DC; ki_description: PWM Current-Mode Controller for Off-Line Supplies, AC-DC, 60kHz, SOIC-8; ki_fp_filters: SOIC*3.9x4.9mm*P1.27mm*; Footprint: Package_SO:SOIC-8_3.9x4.9mm_P1.27mm; Supplier: http://www.onsemi.com/pub_link/Collateral/NCP1200-D.PDF
footprint SOIC-8_3.9x4.9mm_P1.27mm
pins: 1 ADJ (in), 2 FB (in), 3 CS (in), 4 GND (power), 5 DRV (out), 6 VCC (power), 7 NC (in) hidden, 8 HV (in)

## NCP1200D100
designator *  value NCP1200D100
ki_keywords: SMPS Controller AC-DC; ki_description: PWM Current-Mode Controller for Off-Line Supplies, AC-DC, 100kHz, SOIC-8; ki_fp_filters: SOIC*3.9x4.9mm*P1.27mm*; Footprint: Package_SO:SOIC-8_3.9x4.9mm_P1.27mm; Supplier: http://www.onsemi.com/pub_link/Collateral/NCP1200-D.PDF
footprint SOIC-8_3.9x4.9mm_P1.27mm
pins: 1 ADJ (in), 2 FB (in), 3 CS (in), 4 GND (power), 5 DRV (out), 6 VCC (power), 7 NC (in) hidden, 8 HV (in)

## NCP1200P40
designator *  value NCP1200P40
ki_keywords: SMPS Controller AC-DC; ki_description: PWM Current-Mode Controller for Off-Line Supplies, AC-DC, 40kHz, PDIP-8; ki_fp_filters: DIP*W7.62mm*; Footprint: Package_DIP:DIP-8_W7.62mm; Supplier: http://www.onsemi.com/pub_link/Collateral/NCP1200-D.PDF
footprint DIP-8_W7.62mm
pins: 1 ADJ (in), 2 FB (in), 3 CS (in), 4 GND (power), 5 DRV (out), 6 VCC (power), 7 NC (in) hidden, 8 HV (in)

## NCP1200P60
designator *  value NCP1200P60
ki_keywords: SMPS Controller AC-DC; ki_description: PWM Current-Mode Controller for Off-Line Supplies, AC-DC, 60kHz, PDIP-8; ki_fp_filters: DIP*W7.62mm*; Footprint: Package_DIP:DIP-8_W7.62mm; Supplier: http://www.onsemi.com/pub_link/Collateral/NCP1200-D.PDF
footprint DIP-8_W7.62mm
pins: 1 ADJ (in), 2 FB (in), 3 CS (in), 4 GND (power), 5 DRV (out), 6 VCC (power), 7 NC (in) hidden, 8 HV (in)

## NCP1200P100
designator *  value NCP1200P100
ki_keywords: SMPS Controller AC-DC; ki_description: PWM Current-Mode Controller for Off-Line Supplies, AC-DC, 100kHz, PDIP-8; ki_fp_filters: DIP*W7.62mm*; Footprint: Package_DIP:DIP-8_W7.62mm; Supplier: http://www.onsemi.com/pub_link/Collateral/NCP1200-D.PDF
footprint DIP-8_W7.62mm
pins: 1 ADJ (in), 2 FB (in), 3 CS (in), 4 GND (power), 5 DRV (out), 6 VCC (power), 7 NC (in) hidden, 8 HV (in)

## NCP1203D40
designator *  value NCP1203D40
ki_keywords: SMPS Controller AC-DC; ki_description: PWM Current-Mode Controller for Universal Off-Line Supplies Featuring Standby and Short Circuit Protection, AC-DC, 40kHz, SOIC-8; ki_fp_filters: SOIC*3.9x4.9mm*P1.27mm*; Footprint: Package_SO:SOIC-8_3.9x4.9mm_P1.27mm; Supplier: http://www.onsemi.com/pub_link/Collateral/NCP1203-D.PDF
footprint SOIC-8_3.9x4.9mm_P1.27mm
pins: 1 ADJ (in), 2 FB (in), 3 CS (in), 4 GND (power), 5 DRV (out), 6 VCC (power), 7 NC (in) hidden, 8 HV (in)

## NCP1203D60
designator *  value NCP1203D60
ki_keywords: SMPS Controller AC-DC; ki_description: PWM Current-Mode Controller for Universal Off-Line Supplies Featuring Standby and Short Circuit Protection, AC-DC, 60kHz, SOIC-8; ki_fp_filters: SOIC*3.9x4.9mm*P1.27mm*; Footprint: Package_SO:SOIC-8_3.9x4.9mm_P1.27mm; Supplier: http://www.onsemi.com/pub_link/Collateral/NCP1203-D.PDF
footprint SOIC-8_3.9x4.9mm_P1.27mm
pins: 1 ADJ (in), 2 FB (in), 3 CS (in), 4 GND (power), 5 DRV (out), 6 VCC (power), 7 NC (in) hidden, 8 HV (in)

## NCP1203D100
designator *  value NCP1203D100
ki_keywords: SMPS Controller AC-DC; ki_description: PWM Current-Mode Controller for Universal Off-Line Supplies Featuring Standby and Short Circuit Protection, AC-DC, 100kHz, SOIC-8; ki_fp_filters: SOIC*3.9x4.9mm*P1.27mm*; Footprint: Package_SO:SOIC-8_3.9x4.9mm_P1.27mm; Supplier: http://www.onsemi.com/pub_link/Collateral/NCP1203-D.PDF
footprint SOIC-8_3.9x4.9mm_P1.27mm
pins: 1 ADJ (in), 2 FB (in), 3 CS (in), 4 GND (power), 5 DRV (out), 6 VCC (power), 7 NC (in) hidden, 8 HV (in)

## NCP1203P40
designator *  value NCP1203P40
ki_keywords: SMPS Controller AC-DC; ki_description: PWM Current-Mode Controller for Universal Off-Line Supplies Featuring Standby and Short Circuit Protection, AC-DC, 40kHz, PDIP-8; ki_fp_filters: DIP*W7.62mm*; Footprint: Package_DIP:DIP-8_W7.62mm; Supplier: http://www.onsemi.com/pub_link/Collateral/NCP1203-D.PDF
footprint DIP-8_W7.62mm
pins: 1 ADJ (in), 2 FB (in), 3 CS (in), 4 GND (power), 5 DRV (out), 6 VCC (power), 7 NC (in) hidden, 8 HV (in)

## NCP1203P60
designator *  value NCP1203P60
ki_keywords: SMPS Controller AC-DC; ki_description: PWM Current-Mode Controller for Universal Off-Line Supplies Featuring Standby and Short Circuit Protection, AC-DC, 60kHz, PDIP-8; ki_fp_filters: DIP*W7.62mm*; Footprint: Package_DIP:DIP-8_W7.62mm; Supplier: http://www.onsemi.com/pub_link/Collateral/NCP1203-D.PDF
footprint DIP-8_W7.62mm
pins: 1 ADJ (in), 2 FB (in), 3 CS (in), 4 GND (power), 5 DRV (out), 6 VCC (power), 7 NC (in) hidden, 8 HV (in)

## NCP1203P100
designator *  value NCP1203P100
ki_keywords: SMPS Controller AC-DC; ki_description: PWM Current-Mode Controller for Universal Off-Line Supplies Featuring Standby and Short Circuit Protection, AC-DC, 100kHz, PDIP-8; ki_fp_filters: DIP*W7.62mm*; Footprint: Package_DIP:DIP-8_W7.62mm; Supplier: http://www.onsemi.com/pub_link/Collateral/NCP1203-D.PDF
footprint DIP-8_W7.62mm
pins: 1 ADJ (in), 2 FB (in), 3 CS (in), 4 GND (power), 5 DRV (out), 6 VCC (power), 7 NC (in) hidden, 8 HV (in)

## NCP1207A
designator *  value NCP1207A
ki_keywords: SMPS Controller AC-DC; ki_description: PWM Current-Mode Controller for Free Running Quasi-Resonant Operation, AC-DC, 8us min Toff, PDIP-8/SOIC-8; ki_fp_filters: SOIC*3.9x4.9mm*P1.27mm* DIP*W7.62mm*; Supplier: http://www.onsemi.com/pub/Collateral/NCP1207B.PDF
pins: 1 DMG (in), 2 FB (in), 3 CS (in), 4 GND (power), 5 DRV (out), 6 VCC (power), 7 NC (in) hidden, 8 HV (in)

## NCP1207B
designator *  value NCP1207B
ki_keywords: SMPS Controller AC-DC; ki_description: PWM Current-Mode Controller for Free Running Quasi-Resonant Operation, AC-DC, 4.5us min Toff, SOIC-7; ki_fp_filters: SOIC*N7*3.9x4.9mm*P1.27mm*; Footprint: Package_SO:SOIC-8-N7_3.9x4.9mm_P1.27mm; Supplier: http://www.onsemi.com/pub/Collateral/NCP1207B.PDF
footprint SOIC-8-N7_3.9x4.9mm_P1.27mm
pins: 1 DMG (in), 2 FB (in), 3 CS (in), 4 GND (power), 5 DRV (out), 6 VCC (power), 8 HV (in)

## NCP1217AD65
designator *  value NCP1217AD65
ki_keywords: SMPS Controller AC-DC; ki_description: Enhanced PWM Current-Mode Controller for High-Power Universal Off-Line Supplies, AC-DC, 65kHz, 1ms Soft Start, SOIC-8; ki_fp_filters: SOIC*3.9x4.9mm*P1.27mm*; Footprint: Package_SO:SOIC-8_3.9x4.9mm_P1.27mm; Supplier: http://www.onsemi.com/pub_link/Collateral/NCP1217-D.PDF
footprint SOIC-8_3.9x4.9mm_P1.27mm
pins: 1 ADJ (in), 2 FB (in), 3 CS (in), 4 GND (power), 5 DRV (out), 6 VCC (power), 7 NC (in) hidden, 8 HV (in)

## NCP1217AD100
designator *  value NCP1217AD100
ki_keywords: SMPS Controller AC-DC; ki_description: Enhanced PWM Current-Mode Controller for High-Power Universal Off-Line Supplies, AC-DC, 100kHz, 1ms Soft Start, SOIC-8; ki_fp_filters: SOIC*3.9x4.9mm*P1.27mm*; Footprint: Package_SO:SOIC-8_3.9x4.9mm_P1.27mm; Supplier: http://www.onsemi.com/pub_link/Collateral/NCP1217-D.PDF
footprint SOIC-8_3.9x4.9mm_P1.27mm
pins: 1 ADJ (in), 2 FB (in), 3 CS (in), 4 GND (power), 5 DRV (out), 6 VCC (power), 7 NC (in) hidden, 8 HV (in)

## NCP1217AD133
designator *  value NCP1217AD133
ki_keywords: SMPS Controller AC-DC; ki_description: Enhanced PWM Current-Mode Controller for High-Power Universal Off-Line Supplies, AC-DC, 133kHz, 1ms Soft Start, SOIC-8; ki_fp_filters: SOIC*3.9x4.9mm*P1.27mm*; Footprint: Package_SO:SOIC-8_3.9x4.9mm_P1.27mm; Supplier: http://www.onsemi.com/pub_link/Collateral/NCP1217-D.PDF
footprint SOIC-8_3.9x4.9mm_P1.27mm
pins: 1 ADJ (in), 2 FB (in), 3 CS (in), 4 GND (power), 5 DRV (out), 6 VCC (power), 7 NC (in) hidden, 8 HV (in)

## NCP1217AP65
designator *  value NCP1217AP65
ki_keywords: SMPS Controller AC-DC; ki_description: Enhanced PWM Current-Mode Controller for High-Power Universal Off-Line Supplies, AC-DC, 65kHz, 1ms Soft Start, PDIP-8; ki_fp_filters: DIP*W7.62mm*; Footprint: Package_DIP:DIP-8_W7.62mm; Supplier: http://www.onsemi.com/pub_link/Collateral/NCP1217-D.PDF
footprint DIP-8_W7.62mm
pins: 1 ADJ (in), 2 FB (in), 3 CS (in), 4 GND (power), 5 DRV (out), 6 VCC (power), 7 NC (in) hidden, 8 HV (in)

## NCP1217AP100
designator *  value NCP1217AP100
ki_keywords: SMPS Controller AC-DC; ki_description: Enhanced PWM Current-Mode Controller for High-Power Universal Off-Line Supplies, AC-DC, 100kHz, 1ms Soft Start, PDIP-8; ki_fp_filters: DIP*W7.62mm*; Footprint: Package_DIP:DIP-8_W7.62mm; Supplier: http://www.onsemi.com/pub_link/Collateral/NCP1217-D.PDF
footprint DIP-8_W7.62mm
pins: 1 ADJ (in), 2 FB (in), 3 CS (in), 4 GND (power), 5 DRV (out), 6 VCC (power), 7 NC (in) hidden, 8 HV (in)

## NCP1217AP133
designator *  value NCP1217AP133
ki_keywords: SMPS Controller AC-DC; ki_description: Enhanced PWM Current-Mode Controller for High-Power Universal Off-Line Supplies, AC-DC, 133kHz, 1ms Soft Start, PDIP-8; ki_fp_filters: DIP*W7.62mm*; Footprint: Package_DIP:DIP-8_W7.62mm; Supplier: http://www.onsemi.com/pub_link/Collateral/NCP1217-D.PDF
footprint DIP-8_W7.62mm
pins: 1 ADJ (in), 2 FB (in), 3 CS (in), 4 GND (power), 5 DRV (out), 6 VCC (power), 7 NC (in) hidden, 8 HV (in)

## NCP1217D65
designator *  value NCP1217D65
ki_keywords: SMPS Controller AC-DC; ki_description: Enhanced PWM Current-Mode Controller for High-Power Universal Off-Line Supplies, AC-DC, 65kHz, SOIC-8; ki_fp_filters: SOIC*3.9x4.9mm*P1.27mm*; Footprint: Package_SO:SOIC-8_3.9x4.9mm_P1.27mm; Supplier: http://www.onsemi.com/pub_link/Collateral/NCP1217-D.PDF
footprint SOIC-8_3.9x4.9mm_P1.27mm
pins: 1 ADJ (in), 2 FB (in), 3 CS (in), 4 GND (power), 5 DRV (out), 6 VCC (power), 7 NC (in) hidden, 8 HV (in)

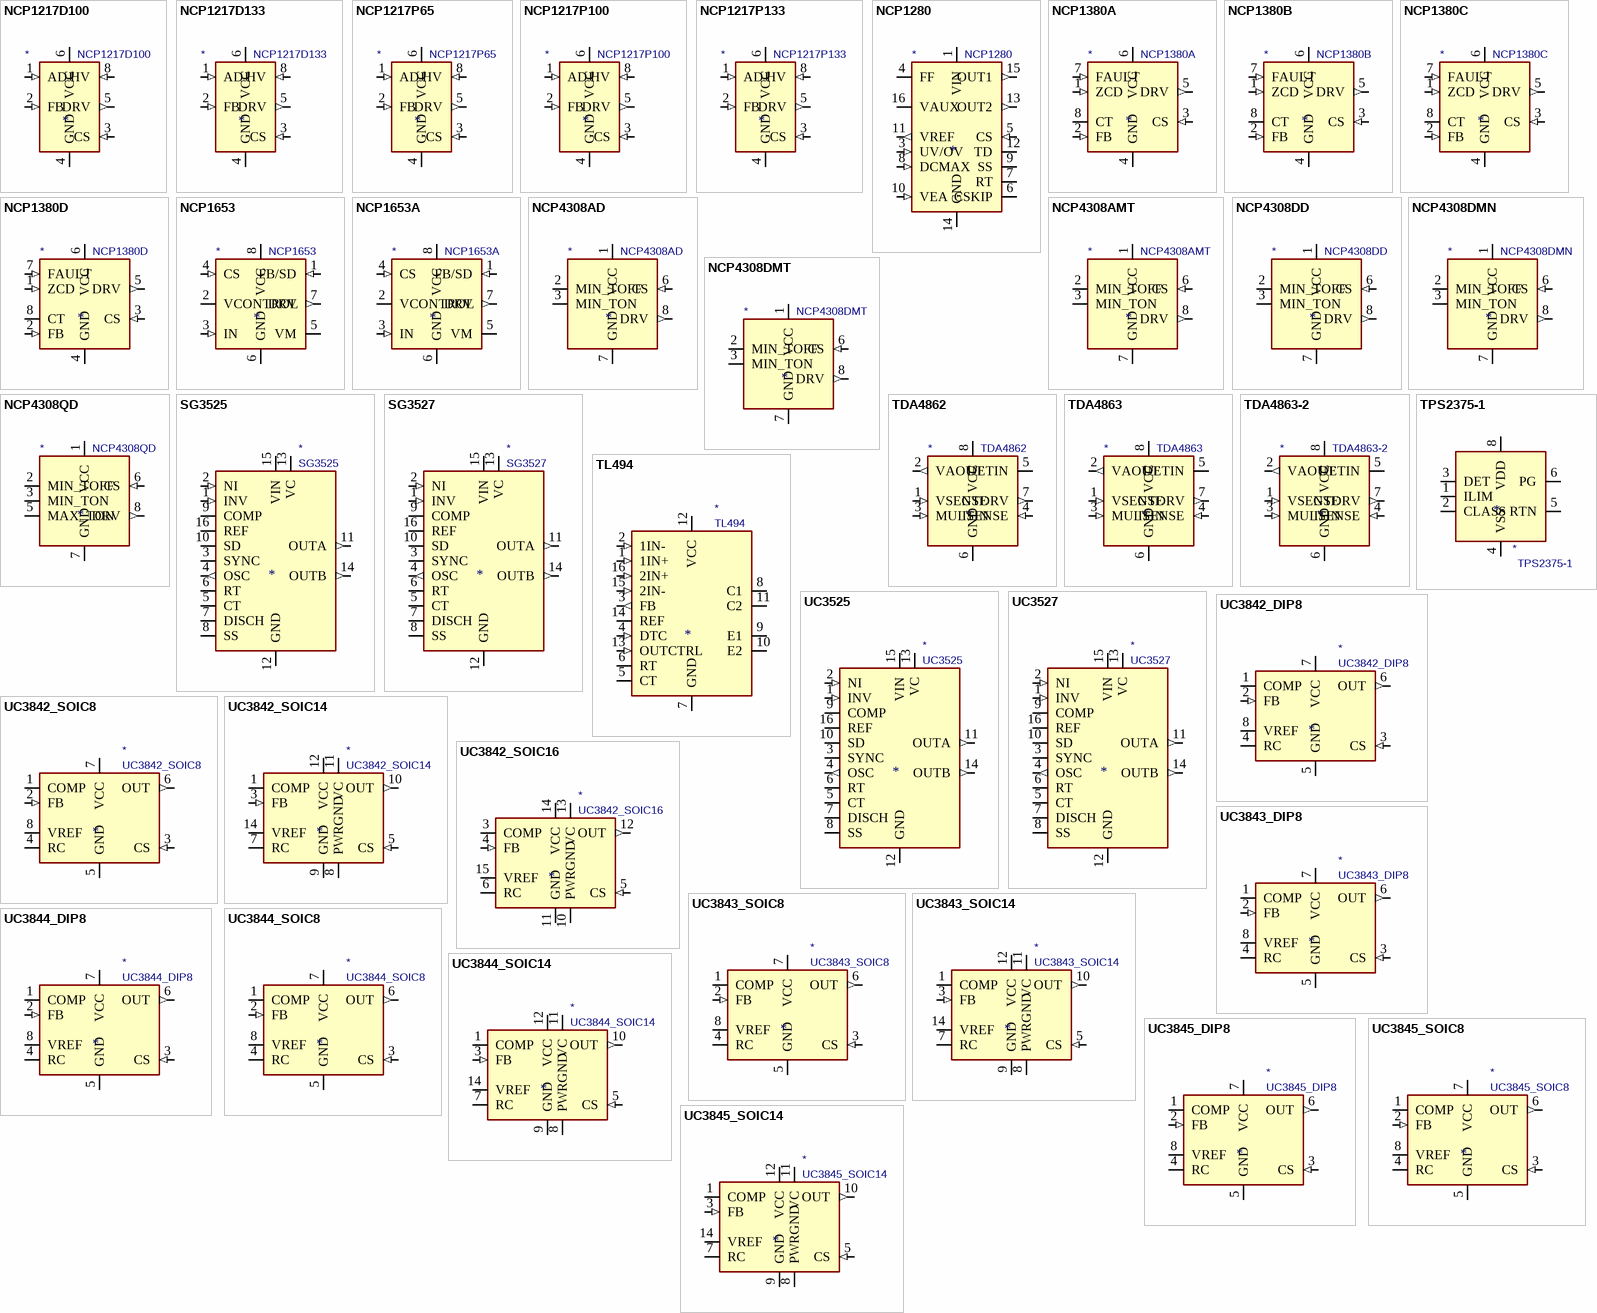
[diagram p2: symbols NCP1217D100 to UC3845_SOIC14]

## NCP1217D100
designator *  value NCP1217D100
ki_keywords: SMPS Controller AC-DC; ki_description: Enhanced PWM Current-Mode Controller for High-Power Universal Off-Line Supplies, AC-DC, 100kHz, SOIC-8; ki_fp_filters: SOIC*3.9x4.9mm*P1.27mm*; Footprint: Package_SO:SOIC-8_3.9x4.9mm_P1.27mm; Supplier: http://www.onsemi.com/pub_link/Collateral/NCP1217-D.PDF
footprint SOIC-8_3.9x4.9mm_P1.27mm
pins: 1 ADJ (in), 2 FB (in), 3 CS (in), 4 GND (power), 5 DRV (out), 6 VCC (power), 7 NC (in) hidden, 8 HV (in)

## NCP1217D133
designator *  value NCP1217D133
ki_keywords: SMPS Controller AC-DC; ki_description: Enhanced PWM Current-Mode Controller for High-Power Universal Off-Line Supplies, AC-DC, 133kHz, SOIC-8; ki_fp_filters: SOIC*3.9x4.9mm*P1.27mm*; Footprint: Package_SO:SOIC-8_3.9x4.9mm_P1.27mm; Supplier: http://www.onsemi.com/pub_link/Collateral/NCP1217-D.PDF
footprint SOIC-8_3.9x4.9mm_P1.27mm
pins: 1 ADJ (in), 2 FB (in), 3 CS (in), 4 GND (power), 5 DRV (out), 6 VCC (power), 7 NC (in) hidden, 8 HV (in)

## NCP1217P65
designator *  value NCP1217P65
ki_keywords: SMPS Controller AC-DC; ki_description: Enhanced PWM Current-Mode Controller for High-Power Universal Off-Line Supplies, AC-DC, 65kHz, PDIP-8; ki_fp_filters: DIP*W7.62mm*; Footprint: Package_DIP:DIP-8_W7.62mm; Supplier: http://www.onsemi.com/pub_link/Collateral/NCP1217-D.PDF
footprint DIP-8_W7.62mm
pins: 1 ADJ (in), 2 FB (in), 3 CS (in), 4 GND (power), 5 DRV (out), 6 VCC (power), 7 NC (in) hidden, 8 HV (in)

## NCP1217P100
designator *  value NCP1217P100
ki_keywords: SMPS Controller AC-DC; ki_description: Enhanced PWM Current-Mode Controller for High-Power Universal Off-Line Supplies, AC-DC, 100kHz, PDIP-8; ki_fp_filters: DIP*W7.62mm*; Footprint: Package_DIP:DIP-8_W7.62mm; Supplier: http://www.onsemi.com/pub_link/Collateral/NCP1217-D.PDF
footprint DIP-8_W7.62mm
pins: 1 ADJ (in), 2 FB (in), 3 CS (in), 4 GND (power), 5 DRV (out), 6 VCC (power), 7 NC (in) hidden, 8 HV (in)

## NCP1217P133
designator *  value NCP1217P133
ki_keywords: SMPS Controller AC-DC; ki_description: Enhanced PWM Current-Mode Controller for High-Power Universal Off-Line Supplies, AC-DC, 133kHz, PDIP-8; ki_fp_filters: DIP*W7.62mm*; Footprint: Package_DIP:DIP-8_W7.62mm; Supplier: http://www.onsemi.com/pub_link/Collateral/NCP1217-D.PDF
footprint DIP-8_W7.62mm
pins: 1 ADJ (in), 2 FB (in), 3 CS (in), 4 GND (power), 5 DRV (out), 6 VCC (power), 7 NC (in) hidden, 8 HV (in)

## NCP1280
designator *  value NCP1280
ki_keywords: SMPS Controller AC-DC; ki_description: Active Clamp Voltage Mode PWM Controller for Off-Line Applications, SOIC-16; ki_fp_filters: SOIC*3.9x9.9mm*P1.27mm*; Footprint: Package_SO:SOIC-16_3.9x9.9mm_P1.27mm; Supplier: https://www.onsemi.com/pub/Collateral/NCP1280-D.PDF
footprint SOIC-16_3.9x9.9mm_P1.27mm
pins: 1 VIN (power), 2 NC (in) hidden, 3 UV/OV (in), 4 FF, 5 CS (in), 6 CSKIP, 7 RT, 8 DCMAX (in), 9 SS, 10 VEA (in), 11 VREF (out), 12 TD, 13 OUT2 (out), 14 GND (power), 15 OUT1 (out), 16 VAUX (power)

## NCP1380A
designator *  value NCP1380A
ki_keywords: SMPS Controller AC-DC; ki_description: Quasi-Resonant Current-Mode Controller for Off-Line Supplies, OVP/OTP, Latched OCP, SOIC-8; ki_fp_filters: SOIC*3.9x4.9mm*P1.27mm*; Footprint: Package_SO:SOIC-8_3.9x4.9mm_P1.27mm; Supplier: https://www.onsemi.com/pub/Collateral/NCP1380-D.PDF
footprint SOIC-8_3.9x4.9mm_P1.27mm
pins: 1 ZCD (in), 2 FB (in), 3 CS (in), 4 GND (power), 5 DRV (out), 6 VCC (power), 7 FAULT (in), 8 CT

## NCP1380B
designator *  value NCP1380B
ki_keywords: SMPS Controller AC-DC; ki_description: Quasi-Resonant Current-Mode Controller for Off-Line Supplies, OVP/OTP, Auto-Recovery OCP, SOIC-8; ki_fp_filters: SOIC*3.9x4.9mm*P1.27mm*; Footprint: Package_SO:SOIC-8_3.9x4.9mm_P1.27mm; Supplier: https://www.onsemi.com/pub/Collateral/NCP1380-D.PDF
footprint SOIC-8_3.9x4.9mm_P1.27mm
pins: 1 ZCD (in), 2 FB (in), 3 CS (in), 4 GND (power), 5 DRV (out), 6 VCC (power), 7 FAULT (in), 8 CT

## NCP1380C
designator *  value NCP1380C
ki_keywords: SMPS Controller AC-DC; ki_description: Quasi-Resonant Current-Mode Controller for Off-Line Supplies, UVP/OVP, Latched OCP, SOIC-8; ki_fp_filters: SOIC*3.9x4.9mm*P1.27mm*; Footprint: Package_SO:SOIC-8_3.9x4.9mm_P1.27mm; Supplier: https://www.onsemi.com/pub/Collateral/NCP1380-D.PDF
footprint SOIC-8_3.9x4.9mm_P1.27mm
pins: 1 ZCD (in), 2 FB (in), 3 CS (in), 4 GND (power), 5 DRV (out), 6 VCC (power), 7 FAULT (in), 8 CT

## NCP1380D
designator *  value NCP1380D
ki_keywords: SMPS Controller AC-DC; ki_description: Quasi-Resonant Current-Mode Controller for Off-Line Supplies, UVP/OVP, Auto-Recovery OCP, SOIC-8; ki_fp_filters: SOIC*3.9x4.9mm*P1.27mm*; Footprint: Package_SO:SOIC-8_3.9x4.9mm_P1.27mm; Supplier: https://www.onsemi.com/pub/Collateral/NCP1380-D.PDF
footprint SOIC-8_3.9x4.9mm_P1.27mm
pins: 1 ZCD (in), 2 FB (in), 3 CS (in), 4 GND (power), 5 DRV (out), 6 VCC (power), 7 FAULT (in), 8 CT

## NCP1653
designator *  value NCP1653
ki_keywords: PFC SMPS Controller; ki_description: Compact, Fixed-Frequency, Continuous Conduction Mode PFC Controller, 100kHz, DIP-8/SOIC-8; ki_fp_filters: SOIC*3.9x4.9mm*P1.27mm* DIP*W7.62mm*; Supplier: https://www.onsemi.com/pub/Collateral/NCP1653-D.PDF
pins: 1 FB/SD (in), 2 VCONTROL, 3 IN (in), 4 CS (in), 5 VM, 6 GND (power), 7 DRV (out), 8 VCC (power)

## NCP1653A
designator *  value NCP1653A
ki_keywords: PFC SMPS Controller; ki_description: Compact, Fixed-Frequency, Continuous Conduction Mode PFC Controller, 67kHz, DIP-8/SOIC-8; ki_fp_filters: SOIC*3.9x4.9mm*P1.27mm* DIP*W7.62mm*; Supplier: https://www.onsemi.com/pub/Collateral/NCP1653-D.PDF
pins: 1 FB/SD (in), 2 VCONTROL, 3 IN (in), 4 CS (in), 5 VM, 6 GND (power), 7 DRV (out), 8 VCC (power)

## NCP4308AD
designator *  value NCP4308AD
ki_keywords: synchronous rectifier controller; ki_description: Synchronous Rectifier Controller, 4A/8A, 4V UVLO, GaN Capable, SOIC-8; ki_fp_filters: SOIC*3.9x4.9mm*P1.27mm*; Footprint: Package_SO:SOIC-8_3.9x4.9mm_P1.27mm; Supplier: http://www.onsemi.com/pub/Collateral/NCP4308-D.PDF
footprint SOIC-8_3.9x4.9mm_P1.27mm
pins: 1 VCC (power), 2 MIN_TOFF, 3 MIN_TON, 4 NC (in) hidden, 5 NC (in) hidden, 6 CS (in), 7 GND (power), 8 DRV (out)

## NCP4308AMT
designator *  value NCP4308AMT
ki_keywords: synchronous rectifier controller; ki_description: Synchronous Rectifier Controller, 4A/8A, 4V UVLO, GaN Capable, WDFN-8; ki_fp_filters: OnSemi*DFN*2x2mm*P0.5mm*; Footprint: Package_DFN_QFN:OnSemi_DFN-8_2x2mm_P0.5mm; Supplier: http://www.onsemi.com/pub/Collateral/NCP4308-D.PDF
footprint OnSemi_DFN-8_2x2mm_P0.5mm
pins: 1 VCC (power), 2 MIN_TOFF, 3 MIN_TON, 4 NC (in) hidden, 5 NC (in) hidden, 6 CS (in), 7 GND (power), 8 DRV (out)

## NCP4308DD
designator *  value NCP4308DD
ki_keywords: synchronous rectifier controller; ki_description: Synchronous Rectifier Controller, 4A/8A, 4V UVLO, SOIC-8; ki_fp_filters: SOIC*3.9x4.9mm*P1.27mm*; Footprint: Package_SO:SOIC-8_3.9x4.9mm_P1.27mm; Supplier: http://www.onsemi.com/pub/Collateral/NCP4308-D.PDF
footprint SOIC-8_3.9x4.9mm_P1.27mm
pins: 1 VCC (power), 2 MIN_TOFF, 3 MIN_TON, 4 NC (in) hidden, 5 NC (in) hidden, 6 CS (in), 7 GND (power), 8 DRV (out)

## NCP4308DMN
designator *  value NCP4308DMN
ki_keywords: synchronous rectifier controller; ki_description: Synchronous Rectifier Controller, 4A/8A, 4V UVLO, DFN-8; ki_fp_filters: DFN*1EP*4x4mm*P0.8mm*EP2.39x2.21mm*; Footprint: Package_DFN_QFN:DFN-8-1EP_4x4mm_P0.8mm_EP2.39x2.21mm; Supplier: http://www.onsemi.com/pub/Collateral/NCP4308-D.PDF
footprint DFN-8-1EP_4x4mm_P0.8mm_EP2.39x2.21mm
pins: 1 VCC (power), 2 MIN_TOFF, 3 MIN_TON, 4 NC (in) hidden, 5 NC (in) hidden, 6 CS (in), 7 GND (power), 8 DRV (out)

## NCP4308DMT
designator *  value NCP4308DMT
ki_keywords: synchronous rectifier controller; ki_description: Synchronous Rectifier Controller, 4A/8A, 4V UVLO, WDFN-8; ki_fp_filters: OnSemi*DFN*2x2mm*P0.5mm*; Footprint: Package_DFN_QFN:OnSemi_DFN-8_2x2mm_P0.5mm; Supplier: http://www.onsemi.com/pub/Collateral/NCP4308-D.PDF
footprint OnSemi_DFN-8_2x2mm_P0.5mm
pins: 1 VCC (power), 2 MIN_TOFF, 3 MIN_TON, 4 NC (in) hidden, 5 NC (in) hidden, 6 CS (in), 7 GND (power), 8 DRV (out)

## NCP4308QD
designator *  value NCP4308QD
ki_keywords: synchronous rectifier controller; ki_description: Synchronous Rectifier Controller, 4A/8A, 4V UVLO, Max TON, SOIC-8; ki_fp_filters: SOIC*3.9x4.9mm*P1.27mm*; Footprint: Package_SO:SOIC-8_3.9x4.9mm_P1.27mm; Supplier: http://www.onsemi.com/pub/Collateral/NCP4308-D.PDF
footprint SOIC-8_3.9x4.9mm_P1.27mm
pins: 1 VCC (power), 2 MIN_TOFF, 3 MIN_TON, 4 NC (in) hidden, 5 MAX_TON, 6 CS (in), 7 GND (power), 8 DRV (out)